# EAGLE library part 1_X_10_HEADER_GENERIC_.1INCH (library 3D_MIG_Controller)
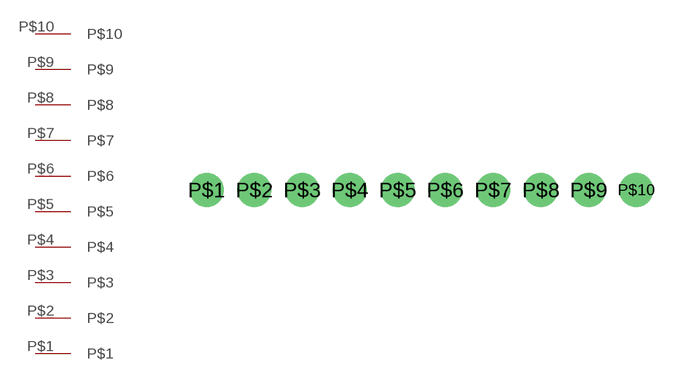
[diagram p18: symbol with the pads of HEADER_1_X_10_.1_INCH; footprint HEADER_1_X_10_.1_INCH]

Designator prefix -

## 1_X_10_HEADER_GENERIC_.1INCH  [HEADER_1_X_10_.1_INCH]
P$1  P$1
P$2  P$2
P$3  P$3
P$4  P$4
P$5  P$5
P$6  P$6
P$7  P$7
P$8  P$8
P$9  P$9
P$10  P$10

## Footprint HEADER_1_X_10_.1_INCH (pad centres in mm)
drill 1.2 pad 1.6: P$1 -24.13,-1.27; P$2 -21.59,-1.27; P$3 -19.05,-1.27; P$4 -16.51,-1.27; P$5 -13.97,-1.27; P$6 -11.43,-1.27; P$7 -8.89,-1.27; P$8 -6.35,-1.27; P$9 -3.81,-1.27; P$10 -1.27,-1.27